# Altium schematic symbol library PRTR5V0U4D,125.SchLib: 1 symbol
Pins are listed as number, name and electrical type; pins without a type are passive.

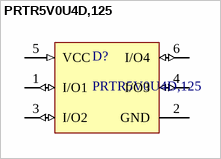
[diagram p0: symbol PRTR5V0U4D,125]

## PRTR5V0U4D,125
designator D?
ESD Suppressors / TVS Diodes 5.5V QUAD R-R ESD ULTRA LOW CAP; Supplier 1: Mouser; Supplier Part Number 1: 771-PRTR5V0U4D-T/R
footprint PRTR5V0U4D,125 (ESD Suppressors / TVS Diodes 5.5V QUAD R-R ESD ULTRA LOW CAP)
pins: 1 I/O1 (io) "input/output 1", 2 GND (power) "ground", 3 I/O2 (io) "input/output 1", 4 I/O3 (io) "input/output 2", 5 VCC (in) "supply voltage", 6 I/O4 (io) "input/output 2"